# Altium footprint library Multiwatt15V.PcbLib: 1 footprints
Each footprint in its own frame and in the unit in brackets; x right, y up, seen from the top. Pads: shape width x height; smd on the part's side, far side on the other; paste and mask are expansions set on the pad; w line width, h text height; cw(c..) or ccw(c..) is an arc to the next point about the centre after c.
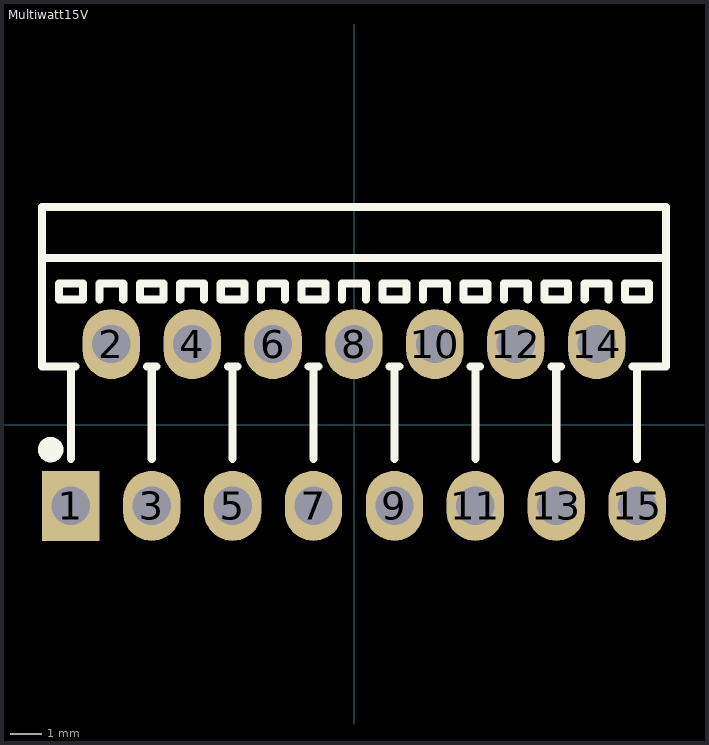
[diagram p0: the footprint, top view; thin cyan lines are the x and y axes]

## Multiwatt15V [mm]
pads (15):
  rect 1.8x2.2 hole 1.2: 1(-8.89,-2.54)
  oval 1.8x2.2 hole 1.2: 2(-7.62,2.54) 3(-6.35,-2.54) 4(-5.08,2.54) 5(-3.81,-2.54) 6(-2.54,2.54) 7(-1.27,-2.54) 8(0,2.54) 9(1.27,-2.54) 10(2.54,2.54) 11(3.81,-2.54) 12(5.08,2.54) 13(6.35,-2.54) 14(7.62,2.54) 15(8.89,-2.54)
Top Overlay:
  circle w0.4: c-9.525,-0.775 r0.2
  lines w0.254: -8.89,-1.06 -8.89,1.84 ; -8.74,1.84 -9.8,1.84 -9.8,5.24 ; -7.995,3.94 -7.995,4.44 -7.245,4.44 -7.245,3.94 ; -6.5,1.84 -6.2,1.84 ; -6.35,-1.06 -6.35,1.84 ; -5.455,3.94 -5.455,4.44 -4.705,4.44 -4.705,3.94 ; -3.96,1.84 -3.66,1.84 ; -3.81,-1.06 -3.81,1.84 ; -2.915,3.94 -2.915,4.44 -2.165,4.44 -2.165,3.94 ; -1.42,1.84 -1.12,1.84 ; -1.27,-1.06 -1.27,1.84 ; -0.375,3.94 -0.375,4.44 0.375,4.44 0.375,3.94 ; 1.12,1.84 1.42,1.84 ; 1.27,-1.06 1.27,1.84 ; 2.165,3.94 2.165,4.44 2.915,4.44 2.915,3.94 ; 3.66,1.84 3.96,1.84 ; 3.81,-1.06 3.81,1.84 ; 4.705,3.94 4.705,4.44 5.455,4.44 5.455,3.94 ; 6.2,1.84 6.5,1.84 ; 6.35,-1.06 6.35,1.84 ; 7.245,3.94 7.245,4.44 7.995,4.44 7.995,3.94 ; 8.74,1.84 9.8,1.84 9.8,5.24 ; 8.89,-1.06 8.89,1.84 ; -9.8,5.24 9.8,5.24 ; -9.8,5.24 -9.8,6.84 9.8,6.84 9.8,5.24 ; -9.265,3.94 -8.515,3.94 -8.515,4.44 -9.265,4.44 -9.265,3.94 ; -6.725,3.94 -5.975,3.94 -5.975,4.44 -6.725,4.44 -6.725,3.94 ; -4.185,3.94 -3.435,3.94 -3.435,4.44 -4.185,4.44 -4.185,3.94 ; -1.645,3.94 -1.645,4.44 -0.895,4.44 -0.895,3.94 -1.645,3.94 ; 0.895,3.94 1.645,3.94 1.645,4.44 0.895,4.44 0.895,3.94 ; 3.435,3.94 4.185,3.94 4.185,4.44 3.435,4.44 3.435,3.94 ; 5.975,3.94 6.725,3.94 6.725,4.44 5.975,4.44 5.975,3.94 ; 8.515,3.94 8.515,4.44 9.265,4.44 9.265,3.94 8.515,3.94